# EAGLE library part ADR3420 (library stepOSP)
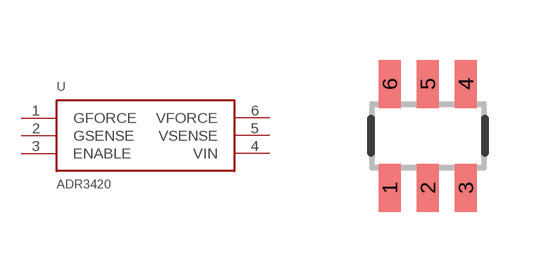
[diagram p18: symbol with the pads of SOT23-6; footprint SOT23-6]

Designator prefix -

## ADR3420  [SOT23-6]
1  GFORCE
2  GSENSE
3  ENABLE
4  VIN
5  VSENSE
6  VFORCE

## Footprint SOT23-6 (pad centres in mm)
smd 0.55 x 1.2: 1 -0.95,-1.3; 2 0,-1.3; 3 0.95,-1.3; 4 0.95,1.3; 5 0,1.3; 6 -0.95,1.3